# EAGLE library part SA03 (library 7seg)
Kingbright 0.3in row pitch Single 7 seg Display CA Source: SA03
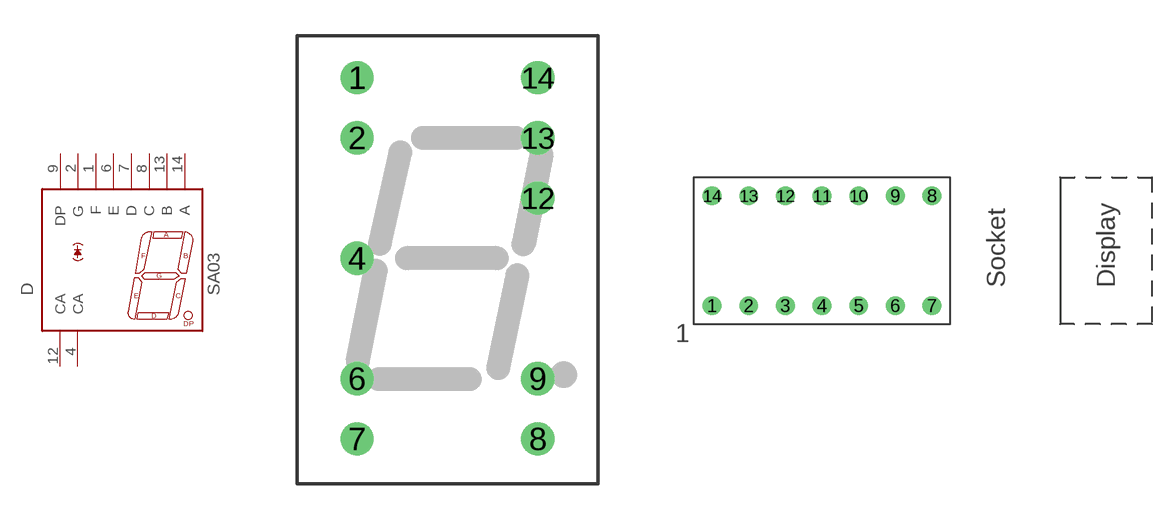
[diagram p3: symbol with the pads of S*03; footprints S*03, 14-810]

Designator prefix D

## SA03  [S*03]
1  F  pas
2  G  pas
4  CA  pas
6  E  pas
7  D  pas
8  C  pas
9  DP  pas
12  CA  pas
13  B  pas
14  A  pas

## SA03V  [14-810]
Pads as for S*03

## SA03R1  [14-X820]
Pads as for S*03

## SA03R2  [14-X822]
Pads as for S*03

## SA03R3  [14-X823]
Pads as for S*03

## SA03S  [SOCKET-14]
Pads as for S*03

## Footprint S*03 (pad centres in mm)
14 pin 7 seg 0.3 DIL (missing pins 3, 5, 10 and 11 ) based on Kingbright SA03 and SC03
drill 0.8 pad 1.4 round: 1 -3.81,7.62; 2 -3.81,5.08; 4 -3.81,0; 6 -3.81,-5.08; 7 -3.81,-7.62; 8 3.81,-7.62; 9 3.81,-5.08; 12 3.81,2.54; 13 3.81,5.08; 14 3.81,7.62

## Footprint 14-810 (pad centres in mm)
14pin 0.3in PCB pitch Vertical series 800 socket
drill 0.8 round: 1 -7.62,-3.81; 2 -5.08,-3.81; 3 -2.54,-3.81; 4 0,-3.81; 5 2.54,-3.81; 6 5.08,-3.81; 7 7.62,-3.81; 8 7.62,3.81; 9 5.08,3.81; 10 2.54,3.81; 11 0,3.81; 12 -2.54,3.81; 13 -5.08,3.81; 14 -7.62,3.81

## Footprint 14-X820 (pad centres in mm)
14pin 0.1in PCB pitch Horizontal series 800 socket
drill 0.8 round: 1 -7.62,-1.27; 2 -5.08,-1.27; 3 -2.54,-1.27; 4 0,-1.27; 5 2.54,-1.27; 6 5.08,-1.27; 7 7.62,-1.27; 8 7.62,1.27; 9 5.08,1.27; 10 2.54,1.27; 11 0,1.27; 12 -2.54,1.27; 13 -5.08,1.27; 14 -7.62,1.27

## Footprint 14-X822 (pad centres in mm)
14pin 0.2in PCB pitch Horizontal series 800 socket
drill 0.8 round: 1 -7.62,-2.54; 2 -5.08,-2.54; 3 -2.54,-2.54; 4 0,-2.54; 5 2.54,-2.54; 6 5.08,-2.54; 7 7.62,-2.54; 8 7.62,2.54; 9 5.08,2.54; 10 2.54,2.54; 11 0,2.54; 12 -2.54,2.54; 13 -5.08,2.54; 14 -7.62,2.54

## Footprint 14-X823 (pad centres in mm)
14pin 0.3in PCB pitch Horizontal series 800 socket
drill 0.8 round: 1 -7.62,-3.81; 2 -5.08,-3.81; 3 -2.54,-3.81; 4 0,-3.81; 5 2.54,-3.81; 6 5.08,-3.81; 7 7.62,-3.81; 8 7.62,3.81; 9 5.08,3.81; 10 2.54,3.81; 11 0,3.81; 12 -2.54,3.81; 13 -5.08,3.81; 14 -7.62,3.81

## Footprint SOCKET-14 (pad centres in mm)
14 pin Dual In Line Socket
drill 0.8 pad 1.4 round: 1 -7.62,-3.81; 2 -5.08,-3.81; 3 -2.54,-3.81; 4 0,-3.81; 5 2.54,-3.81; 6 5.08,-3.81; 7 7.62,-3.81; 8 7.62,3.81; 9 5.08,3.81; 10 2.54,3.81; 11 0,3.81; 12 -2.54,3.81; 13 -5.08,3.81; 14 -7.62,3.81